# EAGLE library part STM32BOARD (library MouseLib)
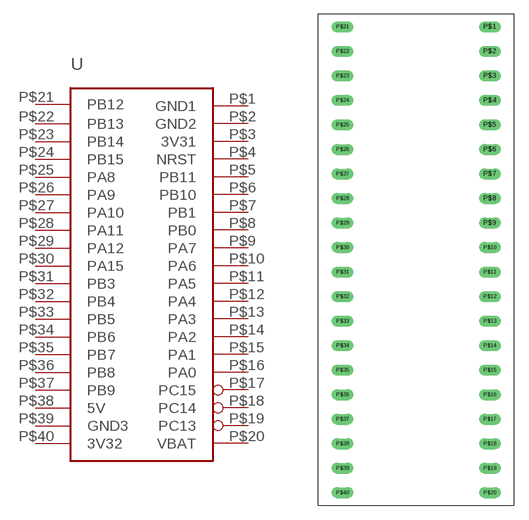
[diagram p0: symbol with the pads of STM32BOARD; footprint STM32BOARD]

Designator prefix -

## STM32BOARD  [STM32BOARD]
P$1  GND1  pwr
P$2  GND2  pwr
P$3  3V31  pwr
P$4  NRST  nc
P$5  PB11
P$6  PB10
P$7  PB1
P$8  PB0
P$9  PA7
P$10  PA6
P$11  PA5
P$12  PA4
P$13  PA3
P$14  PA2
P$15  PA1
P$16  PA0
P$17  PC15
P$18  PC14
P$19  PC13
P$20  VBAT  pwr
P$21  PB12
P$22  PB13
P$23  PB14
P$24  PB15
P$25  PA8
P$26  PA9
P$27  PA10
P$28  PA11
P$29  PA12
P$30  PA15
P$31  PB3
P$32  PB4
P$33  PB5
P$34  PB6
P$35  PB7
P$36  PB8
P$37  PB9
P$38  5V  pwr
P$39  GND3  pwr
P$40  3V32  pwr

## Footprint STM32BOARD (pad centres in mm)
drill 0.65 long: P$1 8.89,30.48; P$2 8.89,27.94; P$3 8.89,25.4; P$4 8.89,22.86; P$5 8.89,20.32; P$6 8.89,17.78; P$7 8.89,15.24; P$8 8.89,12.7; P$9 8.89,10.16; P$10 8.89,7.62; P$11 8.89,5.08; P$12 8.89,2.54; P$13 8.89,0; P$14 8.89,-2.54; P$15 8.89,-5.08; P$16 8.89,-7.62; P$17 8.89,-10.16; P$18 8.89,-12.7; P$19 8.89,-15.24; P$20 8.89,-17.78; P$21 -6.35,30.48; P$22 -6.35,27.94; P$23 -6.35,25.4; P$24 -6.35,22.86; P$25 -6.35,20.32; P$26 -6.35,17.78; P$27 -6.35,15.24; P$28 -6.35,12.7; P$29 -6.35,10.16; P$30 -6.35,7.62; P$31 -6.35,5.08; P$32 -6.35,2.54; P$33 -6.35,0; P$34 -6.35,-2.54; P$35 -6.35,-5.08; P$36 -6.35,-7.62; P$37 -6.35,-10.16; P$38 -6.35,-12.7; P$39 -6.35,-15.24; P$40 -6.35,-17.78